# Altium footprint library 56.6mm_Heat_Sink_60x11x20.PcbLib: 1 footprints
Each footprint in its own frame and in the unit in brackets; x right, y up, seen from the top. Pads: shape width x height; smd on the part's side, far side on the other; paste and mask are expansions set on the pad; w line width, h text height; cw(c..) or ccw(c..) is an arc to the next point about the centre after c.
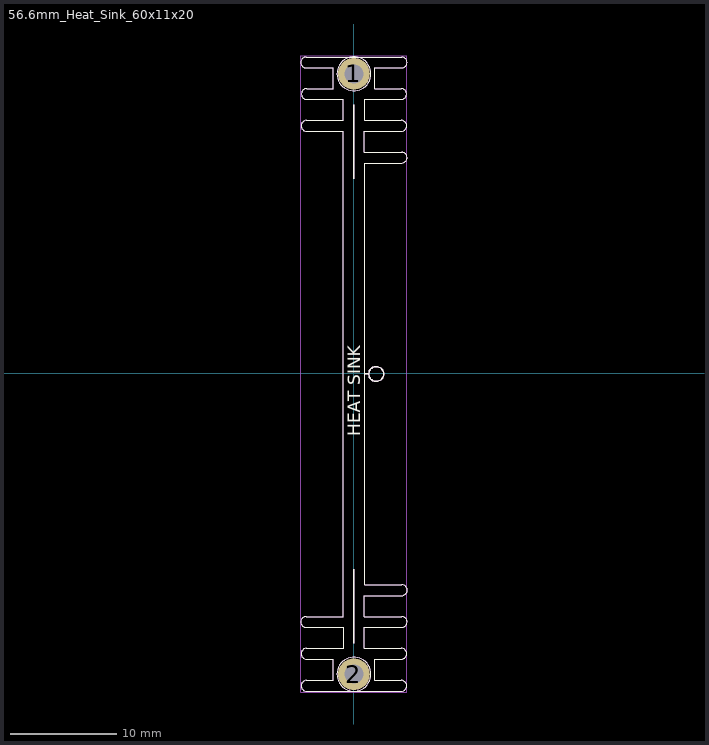
[diagram p0: the footprint, top view; thin cyan lines are the x and y axes]

## 56.6mm_Heat_Sink_60x11x20 [mm] "56.6mm_Heat_Sink_60x11x20"
pads (2):
  round 3 hole 1.8 paste-3 mask+0: 1(0.025,28.225) 2(0.025,-28.375)
Top Overlay:
  circle w0.1: c0.025,-28.375 r1.6
  circle w0.1: c0.025,28.225 r1.6
  circle w0.12: c2.125,-0.075 r0.7
  lines w0.1: -4.494,-23.963 -0.94,-23.963 -0.94,-25.94 -4.45,-25.94 ; -4.494,28.787 -1.95,28.787 -1.95,26.835 -4.425,26.835 ccw(c-4.425,26.325) -4.425,25.815 ; -4.475,-23.96 cw(c-4.475,-23.45) -4.475,-22.94 -0.975,-22.94 ; -4.475,28.79 cw(c-4.475,29.3) -4.475,29.81 0.409,29.81 4.525,29.81 cw(c4.525,29.3) 4.525,28.79 ; -4.469,-29.988 0.408,-29.988 4.519,-29.988 ; -4.469,-26.963 -1.922,-26.963 ; -4.469,22.812 -0.975,22.812 -0.975,17.825 -0.975,-22.94 ; -4.45,-29.985 cw(c-4.45,-29.475) -4.45,-28.965 -1.922,-28.965 -1.922,-26.972 ; -4.45,-26.96 cw(c-4.45,-26.45) -4.45,-25.94 ; -4.45,22.815 cw(c-4.45,23.325) -4.45,23.835 ; -4.45,23.835 -0.973,23.835 -0.973,25.82 -4.444,25.812 ; 0.99,20.822 0.99,22.812 4.519,22.812 ; 1.015,20.835 4.525,20.835 ; 1.972,-26.972 1.972,-28.965 4.5,-28.965 cw(c4.5,-29.475) 4.5,-29.985 ; 1.972,-26.963 4.519,-26.963 ; 4.475,25.815 ccw(c4.475,26.325) 4.475,26.835 2,26.835 2,28.787 4.544,28.787 ; 4.494,25.812 1.023,25.82 1.023,23.835 4.5,23.835 ; 4.5,-26.96 ccw(c4.5,-26.45) 4.5,-25.94 ; 4.5,-25.94 0.99,-25.94 0.99,-23.963 4.544,-23.963 ; 4.5,22.815 ccw(c4.5,23.325) 4.5,23.835 ; 4.525,-23.96 ccw(c4.525,-23.45) 4.525,-22.94 1.015,-22.94 1.015,-20.972 4.554,-20.972 4.557,-20.969 ; 4.525,19.815 ccw(c4.525,20.325) 4.525,20.835 ; 4.535,-20.97 ccw(c4.535,-20.46) 4.535,-19.95 ; 4.535,-19.95 1.025,-19.95 1.025,-17.975 1.025,17.825 1.025,19.812 4.544,19.812 ; -0.975,-22.94 -0.975,-22.94
  lines w0.12: 0.025,-25.475 0.025,-18.475 ; 0.025,18.325 0.025,25.325 ; 1.025,-0.075 1.425,-0.075
  text "HEAT SINK" at 1.037,-5.952 h2
Top Solder:
  lines w0.1: 0.025,28.225 0.025,29.825
Mechanical 1:
  circle w0.1: c0.026,28.231 r0.4
  circle w0.1: c0.025,-28.375 r0.4
  circle w0.1: c0.025,-28.375 r1.6
  circle w0.1: c0.025,28.225 r1.6
  circle w0.12: c2.125,-0.075 r0.7
  lines w0.1: -4.494,-23.963 -0.94,-23.963 -0.94,-25.94 -4.45,-25.94 ; -4.494,28.787 -1.95,28.787 -1.95,26.835 -4.425,26.835 ccw(c-4.425,26.325) -4.425,25.815 ; -4.475,-23.96 cw(c-4.475,-23.45) -4.475,-22.94 -0.975,-22.94 ; -4.475,28.79 cw(c-4.475,29.3) -4.475,29.81 0.409,29.81 4.525,29.81 cw(c4.525,29.3) 4.525,28.79 ; -4.469,-29.988 0.408,-29.988 4.519,-29.988 ; -4.469,-26.963 -1.922,-26.963 ; -4.469,22.812 -0.975,22.812 -0.975,17.825 -0.975,-22.94 ; -4.45,-29.985 cw(c-4.45,-29.475) -4.45,-28.965 -1.922,-28.965 -1.922,-26.972 ; -4.45,-26.96 cw(c-4.45,-26.45) -4.45,-25.94 ; -4.45,22.815 cw(c-4.45,23.325) -4.45,23.835 ; -4.45,23.835 -0.973,23.835 -0.973,25.82 -4.444,25.812 ; -0.358,-30.075 -0.358,-28.728 cw(c0.025,-28.375) 0.408,-28.728 0.408,-30.075 ; -0.357,29.925 -0.357,28.584 ccw(c0.026,28.231) 0.409,28.584 0.409,29.925 ; 0.99,20.822 0.99,22.812 4.519,22.812 ; 1.015,20.835 4.525,20.835 ; 1.972,-26.972 1.972,-28.965 4.5,-28.965 cw(c4.5,-29.475) 4.5,-29.985 ; 1.972,-26.963 4.519,-26.963 ; 4.475,25.815 ccw(c4.475,26.325) 4.475,26.835 2,26.835 2,28.787 4.544,28.787 ; 4.494,25.812 1.023,25.82 1.023,23.835 4.5,23.835 ; 4.5,-26.96 ccw(c4.5,-26.45) 4.5,-25.94 ; 4.5,-25.94 0.99,-25.94 0.99,-23.963 4.544,-23.963 ; 4.5,22.815 ccw(c4.5,23.325) 4.5,23.835 ; 4.525,-23.96 ccw(c4.525,-23.45) 4.525,-22.94 1.015,-22.94 1.015,-20.972 4.554,-20.972 4.557,-20.969 ; 4.525,19.815 ccw(c4.525,20.325) 4.525,20.835 ; 4.535,-20.97 ccw(c4.535,-20.46) 4.535,-19.95 ; 4.535,-19.95 1.025,-19.95 1.025,-17.975 1.025,17.825 1.025,19.812 4.544,19.812 ; -0.975,-22.94 -0.975,-22.94 ; -4.975,-30.075 5.025,-30.075 5.025,29.925 -4.975,29.925 -4.975,-30.075
  lines w0.12: 0.025,-25.475 0.025,-18.475 ; 0.025,18.325 0.025,25.325 ; 1.025,-0.075 1.425,-0.075
  text ".Designator" at 0,0.376 h2
Mechanical 15:
  text "+" at -1,-1.5 h3
3D body: height 17, standoff 15, extent -1.075,-1.075 1.125,0.925
3D body: height 19, standoff 0.51, extent -5.039,-30.038 5.095,29.86
3D body: height 2.5, standoff -3.5, extent -0.375,-28.775 0.425,-27.975
3D body: height 2.5, standoff -3.5, extent -0.374,27.831 0.426,28.631